# Altium schematic symbol library Schlib1.SchLib: 20 symbols
Pins are listed as number, name and electrical type; pins without a type are passive.

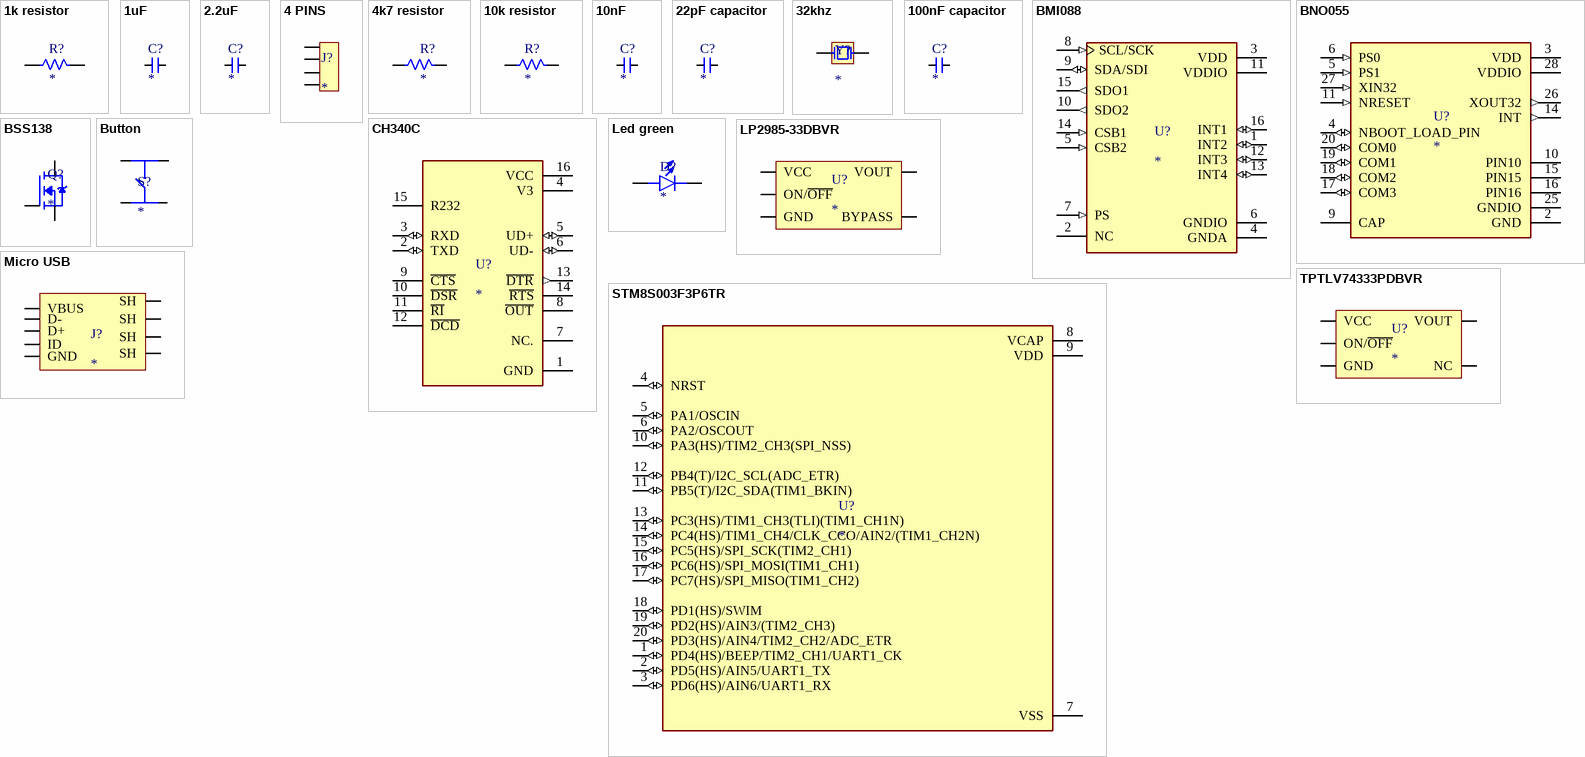
[diagram p0: symbols 1k resistor to TPTLV74333PDBVR]

## 1k resistor
designator R?
100mW Thick Film Resistors 75V ±100ppm/℃ ±1% 1kΩ 0603 Chip Resistor - Surface Mount ROHS; Manufacturer: UNI-ROYAL(Uniroyal Elec); Mfr. Part #: 0603WAF1001T5E; supplier: LCSC; LCSC Part #: C21190
footprint 0603 res
pins: 1, 2

## 1uF
designator C?
25V 1uF X7R ±10% 0603 Multilayer Ceramic Capacitors MLCC - SMD/SMT ROHS; Manufacturer: PSA(Prosperity Dielectrics); Mfr. Part #: FS18X105K250PBG; supplier: LCSC; LCSC Part #: C525333
footprint 0603 cap
pins: 1, 2

## 2.2uF
designator C?
16V 2.2uF X5R 0603 Multilayer Ceramic Capacitors MLCC - SMD/SMT ROHS; Manufacturer: PSA(Prosperity Dielectrics); Mfr. Part #: FS18B225K160PBG; supplier: LCSC; LCSC Part #: C2874748
footprint 0603 cap
pins: 1, 2

## 4 PINS
designator J?
footprint 4 pin
pins: 1, 2, 3, 4

## 4k7 resistor
designator R?
100mW Thick Film Resistors 75V ±100ppm/℃ ±5% 4.7kΩ 0603 Chip Resistor - Surface Mount ROHS; Manufacturer: UNI-ROYAL(Uniroyal Elec); Mfr. Part #: 0603WAJ0472T5E; supplier: LCSC; LCSC Part #: C25999
footprint 0603 res
pins: 1, 2

## 10k resistor
designator R?
100mW Thick Film Resistors 75V ±100ppm/℃ ±1% 10kΩ 0603 Chip Resistor - Surface Mount ROHS; Manufacturer: UNI-ROYAL(Uniroyal Elec); Mfr. Part #: 0603WAF1002T5E; supplier: LCSC; LCSC Part #: C25804
footprint 0603 res
pins: 1, 2

## 10nF
designator C?
50V 10nF X7R ±10% 0603 Multilayer Ceramic Capacitors MLCC - SMD/SMT ROHS; Manufacturer: PSA(Prosperity Dielectrics); Mfr. Part #: FN18X103K500PSG; supplier: LCSC; LCSC Part #: C525264
footprint 0603 cap
pins: 1, 2

## 22pF capacitor
designator C?
50V 22pF C0G ±5% 0603 Multilayer Ceramic Capacitors MLCC - SMD/SMT ROHS; Manufacturer: PSA(Prosperity Dielectrics); Mfr. Part #: FN18N220J500PSG; supplier: LCSC; LCSC Part #: C525244
footprint 0603 cap
pins: 1, 2

## 32khz
designator Y?
32.768kHz 6pF ±10ppm SMD2012-2P Crystals ROHS; Manufacturer: Abracon LLC; Mfr. Part #: ABS06-32.768KHZ-6-1-T; supplier: LCSC; LCSC Part #: C3015107
footprint XTAL_ABS06-107-32.768KHZ-T
pins: 1, 2

## 100nF capacitor
designator C?
50V 100nF X7R ±10% 0603 Multilayer Ceramic Capacitors MLCC - SMD/SMT ROHS; Manufacturer: PSA(Prosperity Dielectrics); Mfr. Part #: FN18X104K500PBG; supplier: LCSC; LCSC Part #: C235731
footprint 0603 cap
pins: 1, 2

## BMI088
designator U?
Accelerometer gyroscope LGA-16(3x4.5) Accelerometers ROHS; Manufacturer: Bosch Sensortec; Mfr. Part #: BMI088; Supplier: LCSC; LCSC Part #: C194919
footprint LGA-16
pins: 1 INT2 (io), 2 NC, 3 VDD (power), 4 GNDA (power), 5 CSB2 (in), 6 GNDIO (power), 7 PS (in), 8 SCL/SCK (in), 9 SDA/SDI (io), 10 SDO2 (out), 11 VDDIO (power), 12 INT3 (io), 13 INT4 (io), 14 CSB1 (in), 15 SDO1 (out), 16 INT1 (io)

## BNO055
designator U?
LGA-28(3.8x5.2) Accelerometers ROHS; Manufacturer: Bosch Sensortec; Mfr. Part #: BNO055; Supplier: LCSC; LCSC Part #: C93216
footprint LGA28R50P4X10_380X520X100
pins: 2 GND (power), 3 VDD (power), 4 NBOOT_LOAD_PIN (io), 5 PS1 (in), 6 PS0 (in), 9 CAP, 10 PIN10 (power), 11 NRESET (in), 14 INT (out), 15 PIN15 (power), 16 PIN16 (power), 17 COM3 (io), 18 COM2 (io), 19 COM1 (io), 20 COM0 (io), 25 GNDIO (power), 26 XOUT32 (out), 27 XIN32 (in), 28 VDDIO (power)

## BSS138
designator Q?
50V 220mA 3.5Ω@10V,220mA 360mW 1.5V@1mA 1 N-channel SOT-23 MOSFETs ROHS; Manufacturer: Shikues; Mfr. Part #: BSS138; supplier: LCSC; LCSC Part #: C112239
footprint SOT95P240X111-3N
pins: 1 G, 2 S, 3 D

## Button
designator S?
None Without 50mA 5.1mm 100000 Times 160gf 12V 5.1mm 1.5mm Round Button Standing paste SPST SMD Tactile Switches ROHS; Manufacturer: XKB Connection; Mfr. Part #: UK-B0240-R-250; supplier: LCSC; LCSC Part #: C318884
footprint button
pins: A, B, C, D

## CH340C
designator U?
2Mbps Transceiver USB 2.0 SOP-16 USB ICs ROHS; Manufacturer: WCH; Mfr. Part #: CH340C; supplier: LCSC; LCSC Part #: C84681
footprint sop 16
pins: 1 GND (power), 2 TXD (io), 3 RXD (io), 4 V3 (power), 5 UD+ (io), 6 UD- (io), 7 NC., 8 ~{OUT}, 9 ~{CTS}, 10 ~{DSR}, 11 ~{RI}, 12 ~{DCD}, 13 ~{DTR} (out), 14 ~{RTS}, 15 R232, 16 VCC (power)

## Led green
designator D?
Emerald 0805 Light Emitting Diodes (LED) ROHS; Manufacturer: Yongyu Photoelectric; Mfr. Part #: SZYY0805G; supplier: LCSC; LCSC Part #: C434432
footprint 0805led
pins: 1, 2

## LP2985-33DBVR
designator U?
45dB@(1kHz) 150mA Fixed 3.3V Positive electrode 16V SOT-23-5 Voltage Regulators - Linear, Low Drop Out (LDO) Regulators ROHS; Manufacturer: Texas Instruments; Mfr. Part #: LP2985-33DBVR; Supplier: LCSC; LCSC Part #: C95414
footprint SOT-23
pins: 1 VCC, 2 GND, 3 ON/~{OFF}, 4 BYPASS, 5 VOUT

## Micro USB
designator J?
1.8A USB 2.0 1 Horizontal attachment 5P Mother -20℃~+85℃ Micro-B SMD USB Connectors ROHS; Manufacturer: SHOU HAN; Mfr. Part #: MicroXNJ; supplier: LCSC; LCSC Part #: C404969
footprint Micro USB
pins: 1 VBUS, 2 D-, 3 D+, 4 ID, 5 GND, S1 SH, S2 SH, S3 SH, S4 SH

## STM8S003F3P6TR
designator U?
STM8 16MHz TSSOP-20 Microcontrollers (MCU/MPU/SOC) ROHS; Manufacturer: STMicroelectronics; Mfr. Part #: STM8S003F3P6TR; Supplier: LCSC; LCSC Part #: C52717
footprint TSSOP20
pins: 1 PD4(HS)/BEEP/TIM2_CH1/UART1_CK (io), 2 PD5(HS)/AIN5/UART1_TX (io), 3 PD6(HS)/AIN6/UART1_RX (io), 4 NRST (io), 5 PA1/OSCIN (io), 6 PA2/OSCOUT (io), 7 VSS (power), 8 VCAP (power), 9 VDD (power), 10 PA3(HS)/TIM2_CH3(SPI_NSS) (io), 11 PB5(T)/I2C_SDA(TIM1_BKIN) (io), 12 PB4(T)/I2C_SCL(ADC_ETR) (io), 13 PC3(HS)/TIM1_CH3(TLI)(TIM1_CH1N) (io), 14 PC4(HS)/TIM1_CH4/CLK_CCO/AIN2/(TIM1_CH2N) (io), 15 PC5(HS)/SPI_SCK(TIM2_CH1) (io), 16 PC6(HS)/SPI_MOSI(TIM1_CH1) (io), 17 PC7(HS)/SPI_MISO(TIM1_CH2) (io), 18 PD1(HS)/SWIM (io), 19 PD2(HS)/AIN3/(TIM2_CH3) (io), 20 PD3(HS)/AIN4/TIM2_CH2/ADC_ETR (io)

## TPTLV74333PDBVR
designator U?
75dB@(1kHz) 300mA Fixed 3.3V Positive electrode 5.5V SOT-23-5 Voltage Regulators - Linear, Low Drop Out (LDO) Regulators ROHS; Manufacturer: TECH PUBLIC; Mfr. Part #: TPTLV74333PDBVR; Supplier: LCSC; LCSC Part #: C3021096
footprint SOT-23
pins: 1 VCC, 2 GND, 3 ON/~{OFF}, 4 NC, 5 VOUT